# EAGLE library part ICL7611DCBAZ (library Intersil_By_element14_Batch_1)
1.4MHz, Low Power CMOS Operational Amplifiers
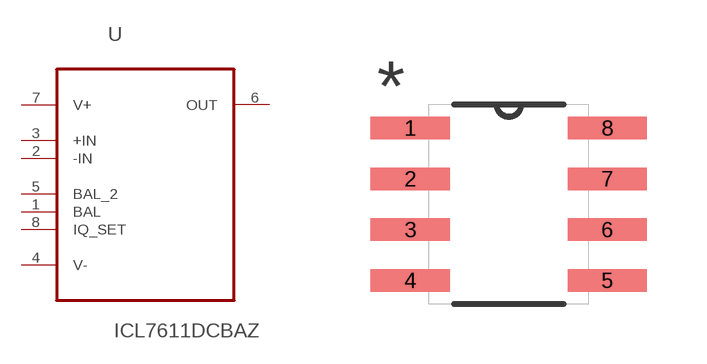
[diagram p174: symbol with the pads of SOIC127P600X175-8N; footprint SOIC127P600X175-8N]

Designator prefix U

## ICL7611DCBAZ (MPN: ICL7611DCBAZ; OC_FARNELL: 1018165; OC_NEWARK: 57K3880; PACKAGE: SOIC-8; SUPPLIER: INTERSIL)  [SOIC127P600X175-8N]
1  BAL  pas
2  -IN  in
3  +IN  in
4  V-  pwr
5  BAL_2  pas
6  OUT  out
7  V+  pwr
8  IQ_SET  in

## Footprint SOIC127P600X175-8N (pad centres in mm)
smd 1.981 x 0.559: 1 -2.464,1.905; 2 -2.464,0.635; 3 -2.464,-0.635; 4 -2.464,-1.905; 5 2.464,-1.905; 6 2.464,-0.635; 7 2.464,0.635; 8 2.464,1.905